# EAGLE library part 691305330006 (library Wurth_Connectors_WR-TBL Pluggable Connector)
WR-TBL Serie 3053 - 3.81 mm Vertical PCB Header KIND PROPERTIES Pitch 3.81 mm MATERIAL PROPERTIES Insulator Material PA66 Insulator Flammability Rating UL94 V-0 Insulator Color Green Contact Material Copper Alloy Contact Plating Tin GENERAL INFORMATION Operating Temperature -40 up to +105 °C Compliance Lead free / RoHS ELECTRICAL PROPERTIES IR UL 12 A Working Voltage [UL] 300 V (AC) Withstanding Voltage [UL] 2500 V (AC) Contact Resistance 20 mΩ CERTIFICATION UL Approval E315414 <https://www.we-online.com/catalog/media/o84288v209%20Family_WR-TBL_6913053300xx.jpg> Details see: https://www.we-online.com/catalog/en/TBL_3_81_3053_VERTICAL_PCB_HEADER_6913053300xx/ Updated by Ella Wu 2019-12-23 2022(C) Wurth Elektronik
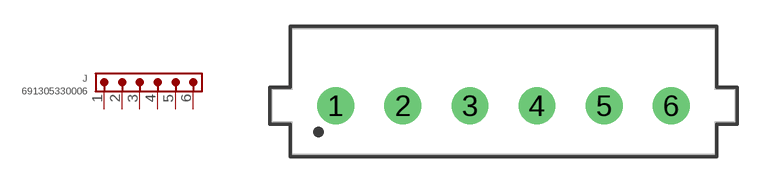
[diagram p31: symbol with the pads of 691305330006; footprint 691305330006]

Designator prefix J

## 691305330006 (DATASHEET-URL: https://www.we-online.com/redexpert/spec/691305330006?ae; IR-UL: 12A; MOUNT: THT; PART-NUMBER: 691305330006; PINS: 6; PITCH: 3.81mm; TYPE: Vertical; VALUE: 691305330006; WORKING-VOLTAGE-UL: 300V (AC))  [691305330006]
1  1  pas
2  2  pas
3  3  pas
4  4  pas
5  5  pas
6  6  pas

## Footprint 691305330006 (pad centres in mm)
WR-TBL Serie 3053 - 3.81 mm Vertical PCB Header Max Height = 9.2mm , Pitch 3.81mm , 6pins
drill 1.4: 1 -9.525,0; 2 -5.715,0; 3 -1.905,0; 4 1.905,0; 5 5.715,0; 6 9.525,0